# EAGLE library part SW_DIP-8 (library LinnesLab-Switches)
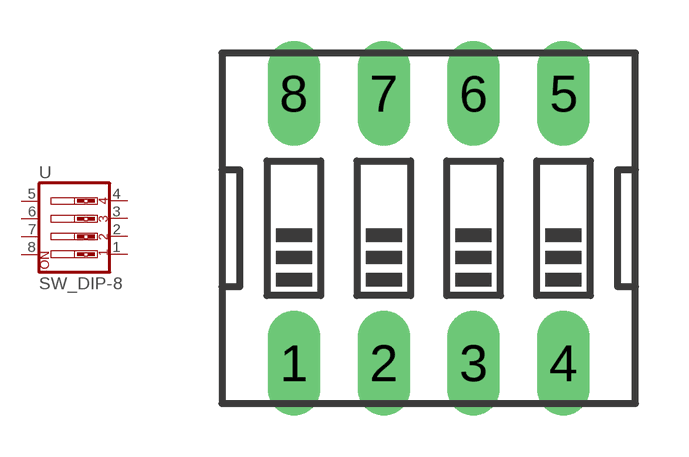
[diagram p0: symbol with the pads of DIPSWITCH-04; footprint DIPSWITCH-04]

Designator prefix -

## SW_DIP-8  [DIPSWITCH-04]
1  1  pas
2  2  pas
3  3  pas
4  4  pas
5  5  pas
6  6  pas
7  7  pas
8  8  pas

## Footprint DIPSWITCH-04 (pad centres in mm)
drill 0.97 long: 1 -3.556,-3.556; 2 -1.016,-3.556; 3 1.524,-3.556; 4 4.064,-3.556; 5 4.064,4.064; 6 1.524,4.064; 7 -1.016,4.064; 8 -3.556,4.064